# Altium integrated library Big_Library_Mosfet.IntLib: 17 symbols
Pins are listed as number, name and electrical type; pins without a type are passive.

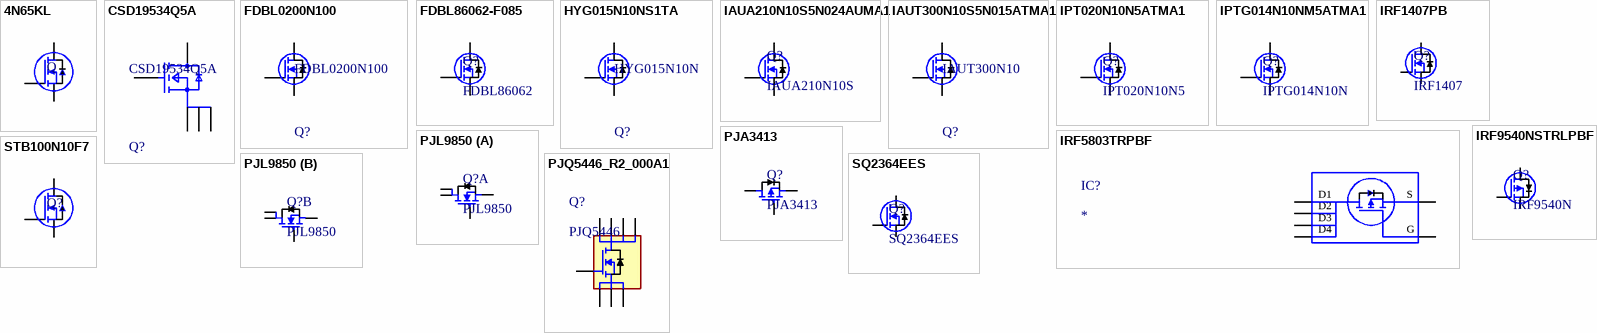
[diagram p0: symbols 4N65KL to STB100N10F7]

## 4N65KL
designator Q
footprint TO-220F-VERTICAL
pins: 1 G, 2 D, 3 S

## CSD19534Q5A
designator Q?
MOSFET N-CH 100V 50 8SON; Manufacturer: Texas Instruments; Reverse Recovery Time: 53ns; Turn Off Delay Time: 20ns; Gate To Source Voltage: 20V; Turn On Delay Time: 9ns; Depletion Mode: False; Threshold Vgs Max: 3.4V; Pulse Drain Current: 137A; Number Of N Channels: 1; Input Capacitace At Vds: 1290pF @ 50V; Max Junction Temp: +150°C; Power Dissipation: 3.2W; Max Forward Diode Voltage: 1V; Continuous Drain Current: 10A; Drain To Source Resistance: 12.6mΩ; Threshold Vgs Min: 2.4V; Transconductance: 47S; Gate Charge At Vgs: 17nC @ 10V; Reverse Recovery Charge: 134nC; Typ Forward Diode Voltage: 0.8V; Rthja Max: 50°C/W; Drain To Source Breakdown Voltage: 100V; Device Class L2: Transistors; Height: 1.1mm; Temperature Range Low: -55°C; Temperature Range High: +150°C; Temperature: -55°C to +150°C; Device Class L1: Discrete Semiconductors; ComponentLink2Description: Datasheet; Number Of Channels: 1; Lead Free: Yes; Octopart: https://octopart.com/csd19534q5a-texas+instruments-46749514; Package: DQJ0008A; Category: Trans; Mouser Description: MOSFET N-Channel MOSFET; Device Class L3: MOSFETs; Digikey Description: MOSFET N-CH 100V 50 8SON; Drain To Source Voltage: 100V; Automotive: No; ComponentLink2URL: http://www.ti.com/lit/ds/symlink/csd19534q5a.pdf; RoHS: TRUE; Manufacturer Part Number: CSD19534Q5A
footprint FP-DQJ0008A-MFG
pins: 1 S, 2 S, 3 S, 4 G, 5-6-7-8 D

## FDBL0200N100
designator Q?
Power MOSFET, N Channel, 100 V, 300 A, 2 Milliohms, H-PSOF, 8 Pins, Surface Mount; Element Configuration: Single; Gate to Source Voltage (Vgs): 20V; Power Dissipation: 429W; Turn-Off Delay Time: 36ns; Turn-On Delay Time: 31ns; Continuous Drain Current (ID): 300A; Drain to Source Breakdown Voltage: 100V; Drain to Source Resistance: 1.5mR; Max Operating Temperature: 175°C; Mount: Surface Mount; Min Operating Temperature: -55°C; Manufacturer Part Number: FDBL0200N100; RoHS: No; Category: MOSFETs; Drain to Source Voltage (Vdss): 100V; Height: 2.4mm; ComponentLink1Description: Link; ComponentLink1URL: https://ozdisan.com/guc-yari-iletkenleri/mosfetler/discrete-mosfetler/FDBL0200N100/1045228; ComponentLink2Description: DataSheet; ComponentLink2URL: https://www.onsemi.com/pdf/datasheet/fdbl0200n100-d.pdf
footprint PG-HSOF-8-ON
pins: 1 G, 2..8 S, 9 D

## FDBL86062-F085
designator Q?, comment FDBL86062
Mosfet N-ch 100V 300A 8-PIN H-psof; Manufacturer Part Number: FDBL86062-F085; Rds On Max: 2mR; Max Power Dissipation: 429W; Input Capacitance: 6.97nF; RoHS: Yes; Min Operating Temperature: -55°C; Max Operating Temperature: 175°C; Continuous Drain Current (ID): 300A; Drain to Source Voltage (Vdss): 100V; ComponentLink1Description: Link; ComponentLink1URL: https://ozdisan.com/guc-yari-iletkenleri/mosfetler/discrete-mosfetler/FDBL86062-F085/651825; ComponentLink2Description: DataSheet; ComponentLink2URL: https://www.onsemi.com/pdf/datasheet/fdbl86062-f085-d.pdf
footprint PG-HSOF-8-ON
pins: 1 G, 2..8 S, 9 D

## HYG015N10NS1TA
designator Q?, comment HYG015N10N
N-Channel 100 V 380A (Tc) 428W (Tc) Surface Mount PG-HSOF-8-1; Manufacturer Part Number: HYG015N10NS1TA; Element Configuration: Single; Gate to Source Voltage (Vgs): 20V; Power Dissipation: 429W; Turn-Off Delay Time: 36ns; Turn-On Delay Time: 31ns; Drain to Source Breakdown Voltage: 100V; Drain to Source Resistance: 1.2mR; Max Operating Temperature: 175°C; Mount: Surface Mount; Min Operating Temperature: -55°C; RoHS: No; Category: MOSFETs; Continuous Drain Current (ID): 380A; Drain to Source Voltage (Vdss): 100V; Height: 2.4mm; ComponentLink1Description: Link; ComponentLink1URL: https://ozdisan.com/guc-yari-iletkenleri/mosfetler/discrete-mosfetler/HYG015N10NS1TA/1086927; ComponentLink2Description: DataSheet; ComponentLink2URL: https://xonstorage.blob.core.windows.net/pdf/huayi_hyg015n10ns1ta_apr22_xonlink.pdf
footprint PG-HSOF-8-MFG
pins: 1 G, 2..8 S, 9 D

## IAUA210N10S5N024AUMA1
designator Q?, comment IAUA210N10S
OptiMOS™-5 Power-Transistor; Current: 210A; Voltage: 100V; Rds: 2.4mR; Power: 238W; Fet Type: N-Ch; Package: PG-HSOF-5-4; ComponentLink1Description: Link; ComponentLink1URL: https://www.digikey.com/en/products/detail/infineon-technologies/IAUA210N10S5N024AUMA1/15776516
footprint PG-HSOF-5-4 (HSOF;SMD, 6 pin, 6.70mm L X 7.00mm W X 2.30mm H body)
pins: 1 S, 2 S, 3 S, 4 S, 5 G, 6 D

## IAUT300N10S5N015ATMA1
designator Q?, comment IAUT300N10
N-Channel 100 V 300A (Tc) 375W (Tc) Surface Mount PG-HSOF-8-1; Manufacturer: Infineon; Manufacturer Part Number: IAUT300N10S5N015ATMA1; Drain To Source Voltage: 100V; Number Of Channels: 1; Turn Off Delay Time: 70ns; Input Capacitace At Vds: 12316pF @ 50V; Turn On Delay Time: 29ns; Max Junction Temp: +175°C; Max Forward Diode Voltage: 1.3V; Depletion Mode: False; Gate Charge At Vgs: 166nC @ 10V; Gate To Source Voltage: 20V; Typ Forward Diode Voltage: 0.9V; Reverse Recovery Charge: 220nC; Threshold Vgs Min: 2.2V; Pulse Drain Current: 1200A; Threshold Vgs Max: 3.8V; Drain To Source Resistance: 1.3mΩ; Reverse Recovery Time: 90ns; Power Dissipation: 375W; Package: PG-HSOF-8; Lead Free: Yes; Temperature Range Low: -55°C; Height: 2.4mm; Temperature: -55°C to +175°C; Temperature Range High: +175°C; Number Of N Channels: 1; Digikey Description: 100V 300A 1.5MOHM TOLL; Drain To Source Breakdown Voltage: 100V; Device Class L3: MOSFETs; Footprint Url: https://www.infineon.com/cms/en/product/packages/PG-HSOF/PG-HSOF-8-1/; Continuous Drain Current: 300A; RoHS: TRUE; ComponentLink1Description: Link; ComponentLink1URL: https://www.digikey.com/en/products/detail/infineon-technologies/IAUT300N10S5N015ATMA1/8130829; ComponentLink2Description: DataSheet; ComponentLink2URL: https://www.infineon.com/dgdl/Infineon-IAUT300N10S5N015-DS-v01_00-EN.pdf?fileId=5546d4625ee5d4cd015f2469d7203245
footprint PG-HSOF-8-MFG
pins: 1 G, 2-3-4-5-6-7-8 S, 9 D

## IPT020N10N5ATMA1
designator Q?, comment IPT020N10N5
Power Transistor MOSFET N-Channel Enhancement 100V 260A 8-Pin HSOF; Manufacturer Part Number: IPT020N10N5ATMA1; Rds On Max: 2mR; Max Power Dissipation: 273W; Input Capacitance: 11nF; RoHS: Yes; Min Operating Temperature: -55°C; Max Operating Temperature: 175°C; Continuous Drain Current (ID): 260A; Drain to Source Voltage (Vdss): 100V; ComponentLink1Description: Link; ComponentLink1URL: https://ozdisan.com/guc-yari-iletkenleri/mosfetler/discrete-mosfetler/IPT020N10N5ATMA1/651823; ComponentLink2Description: DataSheet; ComponentLink2URL: https://www.infineon.com/dgdl/Infineon-IPT020N10N5-DS-v02_00-EN.pdf?fileId=5546d46269e1c019016ac02955ee32f4
footprint PG-HSOF-8-MFG
pins: 1 G, 2..8 S, 9 D

## IPTG014N10NM5ATMA1
designator Q?, comment IPTG014N10N
Mosfet, N-Ch, 100V, 366A, Hsog Infineon IPTG014N10NM5ATMA1; Continuous Drain Current (ID): 37A; Drain to Source Resistance: 1.3mR; Gate to Source Voltage (Vgs): 20V; Power Dissipation: 375W; Turn-Off Delay Time: 85ns; Turn-On Delay Time: 36ns; Manufacturer: Infineon; Manufacturer Part Number: IPTG014N10NM5ATMA1; Min Operating Temperature: -55°C; Max Operating Temperature: 175°C; Drain to Source Breakdown Voltage: 100V; Drain to Source Voltage (Vdss): 100V; Height: 2.4mm; ComponentLink1Description: Link; ComponentLink1URL: https://ozdisan.com/guc-yari-iletkenleri/mosfetler/discrete-mosfetler/IPTG014N10NM5ATMA1/994945; ComponentLink2Description: DataSheet; ComponentLink2URL: https://www.infineon.com/dgdl/Infineon-IPTG014N10NM5-DataSheet-v02_00-EN.pdf?fileId=5546d46277921c320177aa3f74d57d58
footprint PG-HSOG-8-MFG
pins: 1 G, 2 S, 9 D

## IRF1407PB
designator Q?, comment IRF1407
MOSFET DIS.130A 75V N-CH TO220AB HEXFET SMT; Current: 130A; Rds On: 7.8mR; Power Max: 330W; Voltage: 75V; Fet Type: N-Ch; Package: TO220AB; ComponentLink1Description: Link
footprint TO220AB-Vertical
pins: 1 G, 2 D, 3 S

## IRF5803TRPBF
designator IC?
Integrated Circuit; Manufacturer_Name: Infineon; Manufacturer_Part_Number: IRF5803TRPBF; Datasheet Link: https://componentsearchengine.com/Datasheets/1/IRF5803TRPBF.pdf; Height: 1.45mm; Mouser Part Number: 942-IRF5803TRPBF; Mouser Price/Stock: https://www.mouser.co.uk/ProductDetail/Infineon-IR/IRF5803TRPBF/?qs=9%252BKlkBgLFf0kIECb0RJgxQ%3D%3D; Arrow Part Number: IRF5803TRPBF; Arrow Price/Stock: https://www.arrow.com/en/products/irf5803trpbf/infineon-technologies-ag
footprint SOT95P280X145-6N
pins: 1 D1, 2 D2, 3 G, 4 S, 5 D3, 6 D4

## IRF9540NSTRLPBF
designator Q?, comment IRF9540N
MOSFET DIS.23A 100V P-CH TO263(D2PAK) SMT; Current: 23A; Rds: 117mR; Power: 110W; Voltage: 100V; Fet Type: P-Ch; Package: D2PAK-3; ComponentLink1Description: Link; ComponentLink1URL: https://ozdisan.com/power-semiconductors/mosfets/discrete-mosfets/IRF9540NSTRLPBF/612326
footprint D2PAK
pins: 1 G, 2 D, 3 S

## PJA3413
designator Q?
20V P-Channel Enhancement Mode MOSFET; Current: -3.4A; Voltage: -20V; Gate Voltage: +-12V; Fet Type: P Channel; Package: SOT23; ComponentLink1Description: Link; ComponentLink1URL: https://www.ozdisan.com/guc-yari-iletkenleri/mosfetler/discrete-mosfetler/PJA3413R100001/601480
footprint SOT23-(SQ2364EES)_H
footprint SOT23-(SQ2364EES)_L
footprint SOT23-(SQ2364EES)_M
pins: 1 G, 2 S, 3 D

## PJL9850
designator Q?
40V Dual N-channel Enhancement M; Manufacturer: Pan Jit; Manufacturer Part Number: PJL9850_R2_00001; Supplier 1: Digi-Key; RoHS: No; Category: Uncategorized; Stock 1: 16; Pricing 1: 1=0,49, 10=0,415, 100=0,2883, 500=0,22512, 1000=0,18298 (USD); ComponentLink1Description: Link; ComponentLink1URL: https://ozdisan.com/power-semiconductors/mosfets/discrete-mosfets/PJL9850R200001/601739
footprint SOP8
part A pins: 1 S1, 2 G1, 7 D1, 8 D1
part B pins: 3 S2, 4 G2, 5 D2, 6 D2

## PJQ5446_R2_000A1
designator Q?, comment PJQ5446
MOSFET (N-Channel); Manufacturer_Name: PANJIT; Manufacturer_Part_Number: PJQ5446-AU_R2_000A1; Datasheet Link: https://www.panjit.com.tw/upload/datasheet/PJQ5446-AU.pdf; Height: 1.1mm; Mouser Part Number: 241-PJQ5446AUR2000A1; Mouser Price/Stock: https://www.mouser.co.uk/ProductDetail/Panjit/PJQ5446-AU_R2_000A1?qs=sPbYRqrBIVncMdKJ%252BXz82Q%3D%3D
footprint DFN5060-8L
pins: 1 S1, 2 S2, 3 S3, 4 G, 5 D1, 6 D2, 7 D3, 8 D4

## SQ2364EES
designator Q?
Trans MOSFET N-CH 60V 2A Automotive 3-Pin SOT-23 T/R; Manufacturer: Vishay; Manufacturer Part Number: SQ2364EES-T1_GE3; Supplier 1: Digi-Key; RoHS: No; Stock 1: 15433; Pricing 1: 1=0.61000, 10=0.52300, 25=0.48960, 100=0.36380, 500=0.28404, 1000=0.23087 (USD); ComponentLink1URL: http://www.farnell.com/datasheets/2611857.pdf?src-supplier=Farnell; ComponentLink1Description: http://www.farnell.com/datasheets/2611857.pdf?src-supplier=Farnell; ComponentLink2URL: http://www.farnell.com/datasheets/2611857.pdf?src-supplier=Newark; ComponentLink2Description: http://www.farnell.com/datasheets/2611857.pdf?src-supplier=Newark
footprint SOT23-(SQ2364EES)_H
footprint SOT23-(SQ2364EES)_L
footprint SOT23-(SQ2364EES)_M
pins: 1 G, 2 S, 3 D

## STB100N10F7
designator Q?
footprint D2PAK
pins: 1 G, 2 D, 3 S